# Altium schematic symbol library Schlib.SchLib: 3 symbols
Pins are listed as number, name and electrical type; pins without a type are passive.

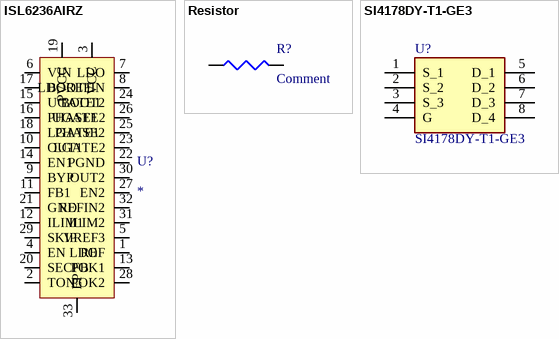
[diagram p0: symbols ISL6236AIRZ to SI4178DY-T1-GE3]

## ISL6236AIRZ
designator U?
Integrated Circuit
footprint QFN50P500X500X100-33N
pins: 1 REF, 2 TON, 3 VCC, 4 EN LDO, 5 VREF3, 6 VIN, 7 LDO, 8 LDOREFIN, 9 BYP, 10 OUT1, 11 FB1, 12 ILIM1, 13 POK1, 14 EN1, 15 UGATE1, 16 PHASE1, 17 BOOT1, 18 LGATE1, 19 PVCC, 20 SECFB, 21 GND, 22 PGND (power), 23 LGATE2, 24 BOOT2, 25 PHASE2, 26 UGATE2, 27 EN2, 28 POK2, 29 SKIP, 30 OUT2, 31 ILIM2, 32 REFIN2, 33 EP

## Resistor
designator R?, comment Comment
pins: 1, 2

## SI4178DY-T1-GE3
designator U?
Integrated Circuit; Manufacturer_Name: Vishay; Allied_Number: 70459530; Datasheet Link: http://www.vishay.com/docs/65718/si4178dy.pdf; Height: 1.75mm; Manufacturer_Part_Number: SI4178DY-T1-GE3; Mouser Part Number: 781-SI4178DY-T1-GE3; Mouser Price/Stock: https://www.mouser.com/Search/Refine.aspx?Keyword=781-SI4178DY-T1-GE3; RS Part Number: 8123205P; RS Price/Stock: http://uk.rs-online.com/web/p/products/8123205P; Allied Price/Stock: https://www.alliedelec.com/siliconix-vishay-si4178dy-t1-ge3/70459530/
footprint SOT127P600X175-8N
pins: 1 S_1, 2 S_2, 3 S_3, 4 G, 5 D_1, 6 D_2, 7 D_3, 8 D_4